# Altium footprint library TQFP100 14x14x1mm.PcbLib: 1 footprints
Each footprint in its own frame and in the unit in brackets; x right, y up, seen from the top. Pads: shape width x height; smd on the part's side, far side on the other; paste and mask are expansions set on the pad; w line width, h text height; cw(c..) or ccw(c..) is an arc to the next point about the centre after c.
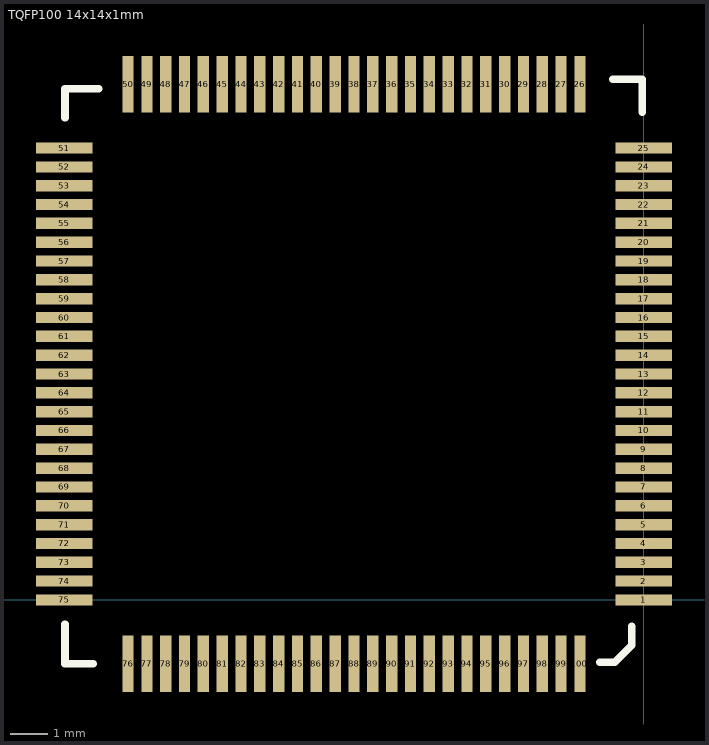
[diagram p0: the footprint, top view; thin cyan lines are the x and y axes]

## TQFP100 14x14x1mm [mm]
pads (100):
  rect 1.5x0.3 smd: 1(0,0) 2(0,0.5) 3(0,1) 4(0,1.5) 5(0,2) 6(0,2.5) 7(0,3) 8(0,3.5) 9(0,4) 10(0,4.5) 11(0,5) 12(0,5.5) 13(0,6) 14(0,6.5) 15(0,7) 16(0,7.5) 17(0,8) 18(0,8.5) 19(0,9) 20(0,9.5) 21(0,10) 22(0,10.5) 23(0,11) 24(0,11.5) 25(0,12) 51(-15.4,12) 52(-15.4,11.5) 53(-15.4,11) 54(-15.4,10.5) 55(-15.4,10) 56(-15.4,9.5) 57(-15.4,9) 58(-15.4,8.5) 59(-15.4,8) 60(-15.4,7.5) 61(-15.4,7) 62(-15.4,6.5) 63(-15.4,6) 64(-15.4,5.5) 65(-15.4,5) 66(-15.4,4.5) 67(-15.4,4) 68(-15.4,3.5) 69(-15.4,3) 70(-15.4,2.5) 71(-15.4,2) 72(-15.4,1.5) 73(-15.4,1) 74(-15.4,0.5) 75(-15.4,0)
  rect 0.3x1.5 smd: 26(-1.7,13.7) 27(-2.2,13.7) 28(-2.7,13.7) 29(-3.2,13.7) 30(-3.7,13.7) 31(-4.2,13.7) 32(-4.7,13.7) 33(-5.2,13.7) 34(-5.7,13.7) 35(-6.2,13.7) 36(-6.7,13.7) 37(-7.2,13.7) 38(-7.7,13.7) 39(-8.2,13.7) 40(-8.7,13.7) 41(-9.2,13.7) 42(-9.7,13.7) 43(-10.2,13.7) 44(-10.7,13.7) 45(-11.2,13.7) 46(-11.7,13.7) 47(-12.2,13.7) 48(-12.7,13.7) 49(-13.2,13.7) 50(-13.7,13.7) 76(-13.7,-1.7) 77(-13.2,-1.7) 78(-12.7,-1.7) 79(-12.2,-1.7) 80(-11.7,-1.7) 81(-11.2,-1.7) 82(-10.7,-1.7) 83(-10.2,-1.7) 84(-9.7,-1.7) 85(-9.2,-1.7) 86(-8.7,-1.7) 87(-8.2,-1.7) 88(-7.7,-1.7) 89(-7.2,-1.7) 90(-6.7,-1.7) 91(-6.2,-1.7) 92(-5.7,-1.7) 93(-5.2,-1.7) 94(-4.7,-1.7) 95(-4.2,-1.7) 96(-3.7,-1.7) 97(-3.2,-1.7) 98(-2.7,-1.7) 99(-2.2,-1.7) 100(-1.7,-1.7)
TopOverlay:
  lines w0.2: -15.375,-0.65 -15.375,-1.7 -14.625,-1.7 ; -15.375,12.8 -15.375,13.575 -14.475,13.575 ; -1.175,-1.65 -0.775,-1.65 -0.325,-1.2 -0.325,-0.7 ; -0.825,13.825 -0.05,13.825 -0.05,12.95
  text "." at 0.551,-0.956 h2.03
Mechanical4:
  text ".040" at 0,0 h0.03
3D body: height 1.61, standoff -0.01, extent -15.693,-2.005 0.307,13.995